# Altium schematic symbol library Switch 4PDT.SchLib: 1 symbol
Pins are listed as number, name and electrical type; pins without a type are passive.

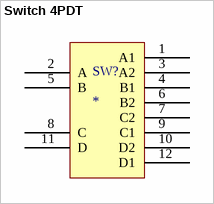
[diagram p0: symbol Switch 4PDT]

## Switch 4PDT
designator SW?
footprint 4PDT Breadboard
pins: 1 A1, 2 A, 3 A2, 4 B1, 5 B, 6 B2, 7 C2, 8 C, 9 C1, 10 D2, 11 D, 12 D1